# EAGLE library part IRF7422D2 (library fetky)
P-Channel Fetky Vdss = -20V Rds(on) = 0.09ohm Schottky Vf = 0.52V
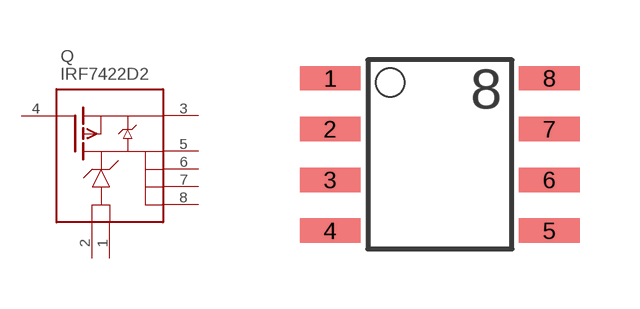
[diagram p0: symbol with the pads of SO-8; footprint SO-8]

Designator prefix Q

## IRF7422D2  [SO-8]
1  A  pas
2  A  pas
3  S  pas
4  G  pas
5  D  pas
6  D  pas
7  D  pas
8  D  pas

## Footprint SO-8 (pad centres in mm)
smd 1.524 x 0.61: 1 -2.743,1.27; 2 -2.743,0; 3 -2.743,-1.27; 4 -2.743,-2.54; 5 2.743,-2.54; 6 2.743,-1.27; 7 2.743,0; 8 2.743,1.27